# Altium schematic symbol library Schlib1.SchLib: 44 symbols (part 2 of 4)
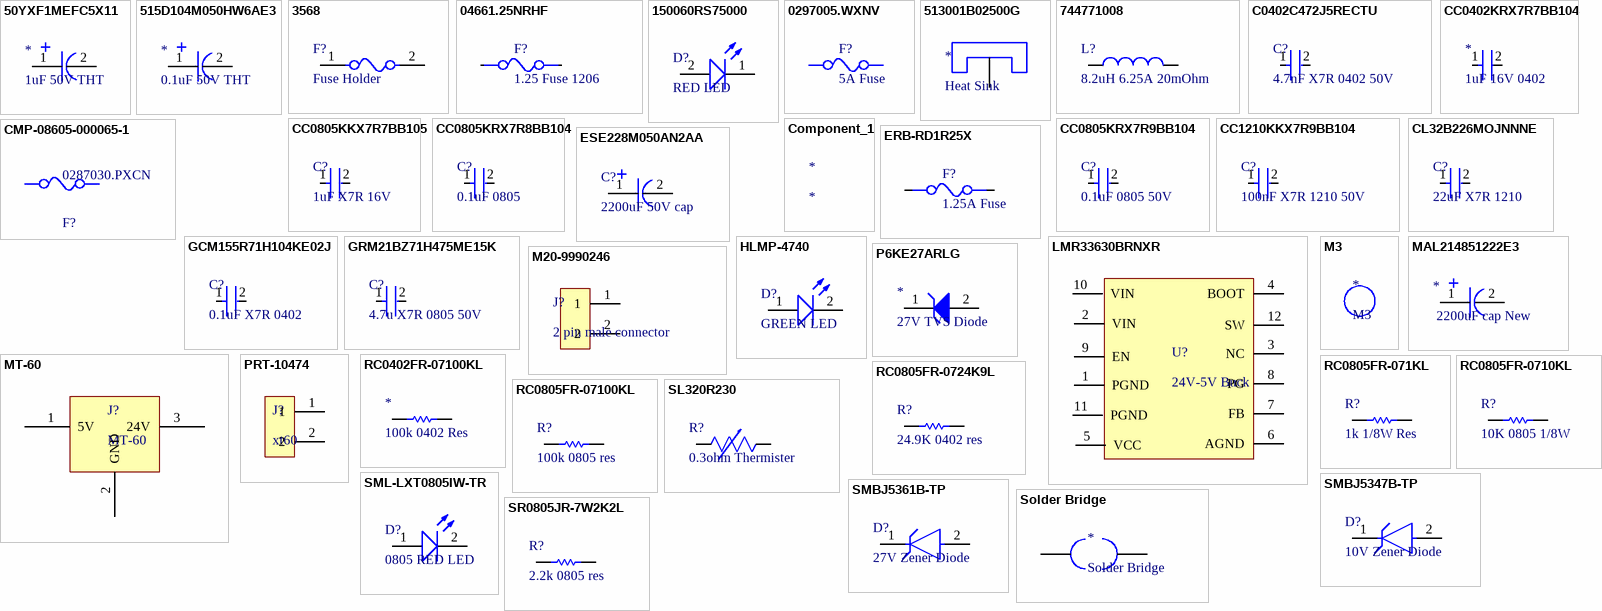
[diagram p2: symbols 50YXF1MEFC5X11 to SR0805JR-7W2K2L]

## CC0805KRX7R8BB104
designator C?, comment 0.1uF 0805
25V 100nF X7R ±10% 0805 Multilayer Ceramic Capacitors MLCC - SMD/SMT ROHS; Manufacturer: Yageo Group; Manufacturer Part Number: CC0805KRX7R8BB104; Manufacturer Package Identifier: CC0805-0.85; Insulation Resistance: 100GΩ; Supplier: Future Electronics; Supplier Part Number: CC0805KRX7R8BB104; RoHS: Compliant; Category: Ceramic Capacitors; Stock: 12000; Pricing: 4000=0.0057, 16000=0.0055, 60000=0.0053, 160000=0.0052, 400000=0.005 (USD); Value: 100nF; Case/Package: 0805; Case Code (Imperial): 0805; Case Code (Metric): 2012; China RoHS: Compliant; Composition: Ceramic; Depth: 1.25mm; Dielectric: X7R; Dielectric Material: Ceramic; Halogen Free: Halogen Free; Height: 850µm; Lead Free: Lead Free; Length: 2mm; Lifecycle Status: Production; Material: Ceramic; Max Operating Temperature: 125°C; Min Operating Temperature: -55°C; Mounting Technology: Surface Mount; Pins: 2; Number of Terminals: 2; Radiation Hardening: No; REACH SVHC: Yes; Schedule B: 8532240020, 8532240020|8532240020, 8532240020|8532240020|8532240020, 8532240020|8532240020|8532240020|8532240020; Termination: SMD/SMT; Thickness: 838.2µm; Tolerance: 10%; Voltage Rating: 25V; Voltage Rating (DC): 25V; Width: 1.25mm; ComponentLink1URL: https://datasheet.octopart.com:443/CC0805KRX7R8BB104-Yageo-datasheet-177165144.pdf?src-supplier=IHS; ComponentLink1Description: https://datasheet.octopart.com:443/CC0805KRX7R8BB104-Yageo-datasheet-177165144.pdf?src-supplier=IHS; ComponentLink2URL: https://datasheet.octopart.com:443/CC0805KRX7R8BB104-Yageo-datasheet-78855689.pdf?src-supplier=Upverter; ComponentLink2Description: https://datasheet.octopart.com:443/CC0805KRX7R8BB104-Yageo-datasheet-78855689.pdf?src-supplier=Upverter; ComponentLink3URL: https://datasheet.octopart.com/CC0805KRX7R8BB104-Yageo-datasheet-10883670.pdf; ComponentLink3Description: https://datasheet.octopart.com/CC0805KRX7R8BB104-Yageo-datasheet-10883670.pdf; ComponentLink4URL: https://datasheet.octopart.com:443/CC0805KRX7R8BB104-Yageo-datasheet-181969809.pdf?src-supplier=Newark; ComponentLink4Description: https://datasheet.octopart.com:443/CC0805KRX7R8BB104-Yageo-datasheet-181969809.pdf?src-supplier=Newark; ComponentLink5URL: https://datasheet.octopart.com:443/CC0805KRX7R8BB104-Yageo-datasheet-147453679.pdf?src-supplier=Newark; ComponentLink5Description: https://datasheet.octopart.com:443/CC0805KRX7R8BB104-Yageo-datasheet-147453679.pdf?src-supplier=Newark; ComponentLink6URL: https://datasheet.octopart.com:443/CC0805KRX7R8BB104-Yageo-datasheet-499490.pdf?src-supplier=Newark; ComponentLink6Description: https://datasheet.octopart.com:443/CC0805KRX7R8BB104-Yageo-datasheet-499490.pdf?src-supplier=Newark; ComponentLink7URL: https://datasheet.octopart.com:443/CC0805KRX7R8BB104-Yageo-datasheet-5301394.pdf?src-supplier=Newark; ComponentLink7Description: https://datasheet.octopart.com:443/CC0805KRX7R8BB104-Yageo-datasheet-5301394.pdf?src-supplier=Newark; ComponentLink8URL: https://datasheet.octopart.com:443/CC0805KRX7R8BB104-Yageo-datasheet-62336348.pdf?src-supplier=Newark; ComponentLink8Description: https://datasheet.octopart.com:443/CC0805KRX7R8BB104-Yageo-datasheet-62336348.pdf?src-supplier=Newark; ComponentLink9URL: https://datasheet.octopart.com:443/CC0805KRX7R8BB104-Yageo-datasheet-151948686.pdf?src-supplier=Farnell; ComponentLink9Description: https://datasheet.octopart.com:443/CC0805KRX7R8BB104-Yageo-datasheet-151948686.pdf?src-supplier=Farnell; ComponentLink10URL: https://datasheet.octopart.com:443/CC0805KRX7R8BB104-Yageo-datasheet-500777.pdf?src-supplier=Farnell; ComponentLink10Description: https://datasheet.octopart.com:443/CC0805KRX7R8BB104-Yageo-datasheet-500777.pdf?src-supplier=Farnell; ComponentLink11URL: https://datasheet.octopart.com:443/CC0805KRX7R8BB104-Yageo-datasheet-166511530.pdf?src-supplier=Future+Electronics; ComponentLink11Description: https://datasheet.octopart.com:443/CC0805KRX7R8BB104-Yageo-datasheet-166511530.pdf?src-supplier=Future+Electronics; ComponentLink12URL: https://datasheet.octopart.com:443/CC0805KRX7R8BB104-Yageo-datasheet-137700082.pdf?src-supplier=Future+Electronics; ComponentLink12Description: https://datasheet.octopart.com:443/CC0805KRX7R8BB104-Yageo-datasheet-137700082.pdf?src-supplier=Future+Electronics; ComponentLink13URL: https://datasheet.octopart.com:443/CC0805KRX7R8BB104-Yageo-datasheet-137700084.pdf?src-supplier=Future+Electronics; ComponentLink13Description: https://datasheet.octopart.com:443/CC0805KRX7R8BB104-Yageo-datasheet-137700084.pdf?src-supplier=Future+Electronics; ComponentLink14URL: https://datasheet.octopart.com:443/CC0805KRX7R8BB104-Yageo-datasheet-27626582.pdf?src-supplier=Future+Electronics; ComponentLink14Description: https://datasheet.octopart.com:443/CC0805KRX7R8BB104-Yageo-datasheet-27626582.pdf?src-supplier=Future+Electronics; ComponentLink15URL: https://datasheet.octopart.com:443/CC0805KRX7R8BB104-Yageo-datasheet-15895757.pdf?src-supplier=Future+Electronics; ComponentLink15Description: https://datasheet.octopart.com:443/CC0805KRX7R8BB104-Yageo-datasheet-15895757.pdf?src-supplier=Future+Electronics; ComponentLink16URL: https://datasheet.octopart.com:443/CC0805KRX7R8BB104-Yageo-datasheet-12526321.pdf?src-supplier=Future+Electronics; ComponentLink16Description: https://datasheet.octopart.com:443/CC0805KRX7R8BB104-Yageo-datasheet-12526321.pdf?src-supplier=Future+Electronics; ComponentLink17URL: https://datasheet.octopart.com:443/CC0805KRX7R8BB104-Yageo-datasheet-8324192.pdf?src-supplier=Future+Electronics; ComponentLink17Description: https://datasheet.octopart.com:443/CC0805KRX7R8BB104-Yageo-datasheet-8324192.pdf?src-supplier=Future+Electronics; ComponentLink18URL: https://datasheet.octopart.com:443/CC0805KRX7R8BB104-Yageo-Group-datasheet-165992755.pdf?src-supplier=ODG+(Origin+Data+Global); ComponentLink18Description: https://datasheet.octopart.com:443/CC0805KRX7R8BB104-Yageo-Group-datasheet-165992755.pdf?src-supplier=ODG+(Origin+Data+Global); ComponentLink19URL: https://datasheet.octopart.com:443/CC0805KRX7R8BB104-Yageo-datasheet-8701427.pdf?src-supplier=element14; ComponentLink19Description: https://datasheet.octopart.com:443/CC0805KRX7R8BB104-Yageo-datasheet-8701427.pdf?src-supplier=element14; ComponentLink20URL: https://datasheet.octopart.com:443/CC0805KRX7R8BB104-Yageo-datasheet-8555986.pdf?src-supplier=TME; ComponentLink20Description: https://datasheet.octopart.com:443/CC0805KRX7R8BB104-Yageo-datasheet-8555986.pdf?src-supplier=TME; ComponentLink21URL: https://datasheet.octopart.com:443/CC0805KRX7R8BB104-Yageo-datasheet-17600895.pdf?src-supplier=TME; ComponentLink21Description: https://datasheet.octopart.com:443/CC0805KRX7R8BB104-Yageo-datasheet-17600895.pdf?src-supplier=TME; ComponentLink22URL: https://datasheet.octopart.com:443/CC0805KRX7R8BB104-Yageo-datasheet-118396.pdf?src-supplier=DigiKey; ComponentLink22Description: https://datasheet.octopart.com:443/CC0805KRX7R8BB104-Yageo-datasheet-118396.pdf?src-supplier=DigiKey; ComponentLink23URL: http://sigma.octopart.com:80/conflict_mineral_statement/Yageo-company-3.pdf?src-supplier=Compliance+Statements; ComponentLink23Description: http://sigma.octopart.com:80/conflict_mineral_statement/Yageo-company-3.pdf?src-supplier=Compliance+Statements; ComponentLink24URL: http://sigma.octopart.com:80/rohs_statement/Yageo-company-2.pdf?src-supplier=Compliance+Statements; ComponentLink24Description: http://sigma.octopart.com:80/rohs_statement/Yageo-company-2.pdf?src-supplier=Compliance+Statements; LCSC Part No: C519981
footprint 0805 CAPACITOR
pins: 1, 2

## CC0805KRX7R9BB104
designator C?, comment 0.1uF 0805 50V
50V 100nF X7R ±10% 0805 Multilayer Ceramic Capacitors MLCC - SMD/SMT ROHS; Manufacturer: Yageo Group; Manufacturer Part Number: CC0805KRX7R9BB104; Manufacturer Package Identifier: CC0805-0.85; Insulation Resistance: 100GΩ; Supplier: Future Electronics; Supplier Part Number: CC0805KRX7R9BB104; RoHS: Compliant; Category: Ceramic Capacitors; Stock: 26464000; Pricing: 4000=0.0057, 16000=0.0055, 60000=0.0053, 160000=0.0052, 400000=0.005 (USD); Value: 100nF; Case/Package: 0805; Case Code (Imperial): 0805; Case Code (Metric): 2012; China RoHS: Compliant; Country of Origin: Mainland China, Taiwan; Depth: 1.25mm; Dielectric: X7R; Dielectric Material: Ceramic; Export Control Classification Number (ECCN) Code: EAR99; Halogen Free: Halogen Free; Height: 850µm; Harmonized Tariff Schedule (HTS) Code: 8532.24.00.20; Introduction Date: 2003-01-27; Lead Free: Lead Free; Length: 2mm; Lifecycle Status: Production; Material: Ceramic; Max Operating Temperature: 125°C; Min Operating Temperature: -55°C; Mounting Technology: Surface Mount; Pins: 2; Number of Terminals: 2; Packaging: Cut Tape; Radiation Hardening: No; REACH SVHC: Yes; Schedule B: 8532240020, 8532240020|8532240020|8532240020|8532240020|8532240020|8532240020|8532240020|8532240020|8532240020|8532240020|8532240020|8532240020|8532240020|8532240020|8532240020|8532240020, 8532240020|8532240020|8532240020|8532240020|8532240020|8532240020|8532240020|8532240020|8532240020|8532240020|8532240020|8532240020|8532240020|8532240020|8532240020|8532240020|8532240020, 8532240020|8532240020|8532240020|8532240020|8532240020|8532240020|8532240020|8532240020|8532240020|8532240020|8532240020|8532240020|8532240020|8532240020|8532240020|8532240020|8532240020|8532240020; Termination: SMD/SMT; Thickness: 838.2µm; Tolerance: 10%; Voltage: 50V; Voltage Rating: 50V; Voltage Rating (DC): 50V; Width: 1.25mm; ComponentLink1URL: https://datasheet.octopart.com:443/CC0805KRX7R9BB104-Yageo-datasheet-177165144.pdf?src-supplier=IHS; ComponentLink1Description: https://datasheet.octopart.com:443/CC0805KRX7R9BB104-Yageo-datasheet-177165144.pdf?src-supplier=IHS; ComponentLink2URL: https://datasheet.octopart.com:443/CC0805KRX7R9BB104-Yageo-datasheet-78855689.pdf?src-supplier=Upverter; ComponentLink2Description: https://datasheet.octopart.com:443/CC0805KRX7R9BB104-Yageo-datasheet-78855689.pdf?src-supplier=Upverter; ComponentLink3URL: https://datasheet.octopart.com:443/CC0805KRX7R9BB104-Yageo-datasheet-68298032.pdf?src-supplier=Upverter; ComponentLink3Description: https://datasheet.octopart.com:443/CC0805KRX7R9BB104-Yageo-datasheet-68298032.pdf?src-supplier=Upverter; ComponentLink4URL: https://datasheet.octopart.com:443/CC0805KRX7R9BB104-Yageo-Group-datasheet-189192896.pdf?src-supplier=Future+Electronics; ComponentLink4Description: https://datasheet.octopart.com:443/CC0805KRX7R9BB104-Yageo-Group-datasheet-189192896.pdf?src-supplier=Future+Electronics; ComponentLink5URL: https://datasheet.octopart.com:443/CC0805KRX7R9BB104-Yageo-datasheet-166511530.pdf?src-supplier=Future+Electronics; ComponentLink5Description: https://datasheet.octopart.com:443/CC0805KRX7R9BB104-Yageo-datasheet-166511530.pdf?src-supplier=Future+Electronics; ComponentLink6URL: https://datasheet.octopart.com:443/CC0805KRX7R9BB104-Yageo-datasheet-137700082.pdf?src-supplier=Future+Electronics; ComponentLink6Description: https://datasheet.octopart.com:443/CC0805KRX7R9BB104-Yageo-datasheet-137700082.pdf?src-supplier=Future+Electronics; ComponentLink7URL: https://datasheet.octopart.com:443/CC0805KRX7R9BB104-Yageo-datasheet-137700084.pdf?src-supplier=Future+Electronics; ComponentLink7Description: https://datasheet.octopart.com:443/CC0805KRX7R9BB104-Yageo-datasheet-137700084.pdf?src-supplier=Future+Electronics; ComponentLink8URL: https://datasheet.octopart.com:443/CC0805KRX7R9BB104-Yageo-datasheet-82288757.pdf?src-supplier=Future+Electronics; ComponentLink8Description: https://datasheet.octopart.com:443/CC0805KRX7R9BB104-Yageo-datasheet-82288757.pdf?src-supplier=Future+Electronics; ComponentLink9URL: https://datasheet.octopart.com:443/CC0805KRX7R9BB104-Yageo-datasheet-62139192.pdf?src-supplier=Future+Electronics; ComponentLink9Description: https://datasheet.octopart.com:443/CC0805KRX7R9BB104-Yageo-datasheet-62139192.pdf?src-supplier=Future+Electronics; ComponentLink10URL: https://datasheet.octopart.com:443/CC0805KRX7R9BB104-Yageo-datasheet-27626582.pdf?src-supplier=Future+Electronics; ComponentLink10Description: https://datasheet.octopart.com:443/CC0805KRX7R9BB104-Yageo-datasheet-27626582.pdf?src-supplier=Future+Electronics; ComponentLink11URL: https://datasheet.octopart.com:443/CC0805KRX7R9BB104-Yageo-datasheet-15895757.pdf?src-supplier=Future+Electronics; ComponentLink11Description: https://datasheet.octopart.com:443/CC0805KRX7R9BB104-Yageo-datasheet-15895757.pdf?src-supplier=Future+Electronics; ComponentLink12URL: https://datasheet.octopart.com:443/CC0805KRX7R9BB104-Yageo-datasheet-12526321.pdf?src-supplier=Future+Electronics; ComponentLink12Description: https://datasheet.octopart.com:443/CC0805KRX7R9BB104-Yageo-datasheet-12526321.pdf?src-supplier=Future+Electronics; ComponentLink13URL: https://datasheet.octopart.com:443/CC0805KRX7R9BB104-Yageo-datasheet-8324192.pdf?src-supplier=Future+Electronics; ComponentLink13Description: https://datasheet.octopart.com:443/CC0805KRX7R9BB104-Yageo-datasheet-8324192.pdf?src-supplier=Future+Electronics; ComponentLink14URL: https://datasheet.octopart.com/CC0805KRX7R9BB104-Yageo-datasheet-10883670.pdf; ComponentLink14Description: https://datasheet.octopart.com/CC0805KRX7R9BB104-Yageo-datasheet-10883670.pdf; ComponentLink15URL: https://datasheet.octopart.com:443/CC0805KRX7R9BB104-Yageo-datasheet-62336348.pdf?src-supplier=Newark; ComponentLink15Description: https://datasheet.octopart.com:443/CC0805KRX7R9BB104-Yageo-datasheet-62336348.pdf?src-supplier=Newark; ComponentLink16URL: https://datasheet.octopart.com:443/CC0805KRX7R9BB104-Yageo-datasheet-181969852.pdf?src-supplier=Newark; ComponentLink16Description: https://datasheet.octopart.com:443/CC0805KRX7R9BB104-Yageo-datasheet-181969852.pdf?src-supplier=Newark; ComponentLink17URL: https://datasheet.octopart.com:443/CC0805KRX7R9BB104-Yageo-datasheet-181969851.pdf?src-supplier=Newark; ComponentLink17Description: https://datasheet.octopart.com:443/CC0805KRX7R9BB104-Yageo-datasheet-181969851.pdf?src-supplier=Newark; ComponentLink18URL: https://datasheet.octopart.com:443/CC0805KRX7R9BB104-Phycomp-datasheet-499490.pdf?src-supplier=Newark; ComponentLink18Description: https://datasheet.octopart.com:443/CC0805KRX7R9BB104-Phycomp-datasheet-499490.pdf?src-supplier=Newark; ComponentLink19URL: https://datasheet.octopart.com:443/CC0805KRX7R9BB104-Yageo-datasheet-147453679.pdf?src-supplier=element14+APAC; ComponentLink19Description: https://datasheet.octopart.com:443/CC0805KRX7R9BB104-Yageo-datasheet-147453679.pdf?src-supplier=element14+APAC; ComponentLink20URL: https://datasheet.octopart.com:443/CC0805KRX7R9BB104-Yageo-datasheet-151948686.pdf?src-supplier=Farnell; ComponentLink20Description: https://datasheet.octopart.com:443/CC0805KRX7R9BB104-Yageo-datasheet-151948686.pdf?src-supplier=Farnell; ComponentLink21URL: https://datasheet.octopart.com:443/CC0805KRX7R9BB104-Yageo-Group-datasheet-188689702.pdf?src-supplier=Farnell; ComponentLink21Description: https://datasheet.octopart.com:443/CC0805KRX7R9BB104-Yageo-Group-datasheet-188689702.pdf?src-supplier=Farnell; ComponentLink22URL: https://datasheet.octopart.com:443/CC0805KRX7R9BB104-Phycomp-datasheet-500777.pdf?src-supplier=Farnell; ComponentLink22Description: https://datasheet.octopart.com:443/CC0805KRX7R9BB104-Phycomp-datasheet-500777.pdf?src-supplier=Farnell; ComponentLink23URL: https://datasheet.octopart.com:443/CC0805KRX7R9BB104-Yageo-Group-datasheet-165992755.pdf?src-supplier=ODG+(Origin+Data+Global); ComponentLink23Description: https://datasheet.octopart.com:443/CC0805KRX7R9BB104-Yageo-Group-datasheet-165992755.pdf?src-supplier=ODG+(Origin+Data+Global); ComponentLink24URL: https://datasheet.octopart.com:443/CC0805KRX7R9BB104-Yageo-datasheet-140260305.pdf?src-supplier=SOS+electronic; ComponentLink24Description: https://datasheet.octopart.com:443/CC0805KRX7R9BB104-Yageo-datasheet-140260305.pdf?src-supplier=SOS+electronic; ComponentLink25URL: https://datasheet.octopart.com:443/CC0805KRX7R9BB104-Yageo-datasheet-120101875.pdf?src-supplier=Megastar; ComponentLink25Description: https://datasheet.octopart.com:443/CC0805KRX7R9BB104-Yageo-datasheet-120101875.pdf?src-supplier=Megastar; ComponentLink26URL: https://datasheet.octopart.com:443/CC0805KRX7R9BB104-Yageo-datasheet-8701427.pdf?src-supplier=element14; ComponentLink26Description: https://datasheet.octopart.com:443/CC0805KRX7R9BB104-Yageo-datasheet-8701427.pdf?src-supplier=element14; ComponentLink27URL: https://datasheet.octopart.com:443/CC0805KRX7R9BB104-Yageo-datasheet-5301394.pdf?src-supplier=element14; ComponentLink27Description: https://datasheet.octopart.com:443/CC0805KRX7R9BB104-Yageo-datasheet-5301394.pdf?src-supplier=element14; ComponentLink28URL: https://datasheet.octopart.com:443/CC0805KRX7R9BB104-Yageo-datasheet-17600895.pdf?src-supplier=TME; ComponentLink28Description: https://datasheet.octopart.com:443/CC0805KRX7R9BB104-Yageo-datasheet-17600895.pdf?src-supplier=TME; ComponentLink29URL: https://datasheet.octopart.com:443/CC0805KRX7R9BB104-Yageo-datasheet-118396.pdf?src-supplier=DigiKey; ComponentLink29Description: https://datasheet.octopart.com:443/CC0805KRX7R9BB104-Yageo-datasheet-118396.pdf?src-supplier=DigiKey; ComponentLink30URL: http://sigma.octopart.com:80/conflict_mineral_statement/Yageo-company-3.pdf?src-supplier=Compliance+Statements; ComponentLink30Description: http://sigma.octopart.com:80/conflict_mineral_statement/Yageo-company-3.pdf?src-supplier=Compliance+Statements; ComponentLink31URL: http://sigma.octopart.com:80/rohs_statement/Yageo-company-2.pdf?src-supplier=Compliance+Statements; ComponentLink31Description: http://sigma.octopart.com:80/rohs_statement/Yageo-company-2.pdf?src-supplier=Compliance+Statements; LCSC Part No: C49678
footprint 0805 CAPACITOR
pins: 1, 2

## CC1210KKX7R9BB104
designator C?, comment 100nF X7R 1210 50V
50V 100nF X7R ±10% 1210 Multilayer Ceramic Capacitors MLCC - SMD/SMT ROHS; Manufacturer: Yageo Group; Manufacturer Part Number: CC1210KKX7R9BB104; Supplier: DigiKey; Supplier Part Number: 311-4522-1-ND; RoHS: Compliant; Category: Ceramic Capacitors; Stock: 13190; Pricing: 1=0.49, 10=0.296, 50=0.221, 100=0.1979, 500=0.15896, 1000=0.14693 (USD); Value: 100nF; Case/Package: 1210; Case Code (Imperial): 1210; Case Code (Metric): 3225; China RoHS: Compliant; Composition: Ceramic; Depth: 2.5mm; Dielectric: X7R; Dielectric Material: Ceramic; Halogen Free: Halogen Free; Height: 850µm; Lead Free: Lead Free; Length: 3.2mm; Lifecycle Status: Production; Max Operating Temperature: 125°C; Min Operating Temperature: -55°C; Mounting Technology: Surface Mount; Number of Terminals: 2; Packaging: Tape and Reel; Radiation Hardening: No; REACH SVHC: Yes; Schedule B: 8532240020, 8532240020|8532240020|8532240020|8532240020|8532240020; Termination: SMD/SMT; Thickness: 939.8µm; Tolerance: 10%; Voltage Rating: 50V; Voltage Rating (DC): 50V; Width: 2.5mm; ComponentLink1URL: https://datasheet.octopart.com:443/CC1210KKX7R9BB104-Yageo-datasheet-177165144.pdf?src-supplier=IHS; ComponentLink1Description: https://datasheet.octopart.com:443/CC1210KKX7R9BB104-Yageo-datasheet-177165144.pdf?src-supplier=IHS; ComponentLink2URL: https://datasheet.octopart.com:443/CC1210KKX7R9BB104-Yageo-Group-datasheet-189192896.pdf?src-supplier=Future+Electronics; ComponentLink2Description: https://datasheet.octopart.com:443/CC1210KKX7R9BB104-Yageo-Group-datasheet-189192896.pdf?src-supplier=Future+Electronics; ComponentLink3URL: https://datasheet.octopart.com:443/CC1210KKX7R9BB104-Yageo-datasheet-166511530.pdf?src-supplier=Future+Electronics; ComponentLink3Description: https://datasheet.octopart.com:443/CC1210KKX7R9BB104-Yageo-datasheet-166511530.pdf?src-supplier=Future+Electronics; ComponentLink4URL: https://datasheet.octopart.com:443/CC1210KKX7R9BB104-Yageo-datasheet-137700082.pdf?src-supplier=Future+Electronics; ComponentLink4Description: https://datasheet.octopart.com:443/CC1210KKX7R9BB104-Yageo-datasheet-137700082.pdf?src-supplier=Future+Electronics; ComponentLink5URL: https://datasheet.octopart.com:443/CC1210KKX7R9BB104-Yageo-datasheet-137700084.pdf?src-supplier=Future+Electronics; ComponentLink5Description: https://datasheet.octopart.com:443/CC1210KKX7R9BB104-Yageo-datasheet-137700084.pdf?src-supplier=Future+Electronics; ComponentLink6URL: https://datasheet.octopart.com:443/CC1210KKX7R9BB104-Yageo-datasheet-27626582.pdf?src-supplier=Future+Electronics; ComponentLink6Description: https://datasheet.octopart.com:443/CC1210KKX7R9BB104-Yageo-datasheet-27626582.pdf?src-supplier=Future+Electronics; ComponentLink7URL: https://datasheet.octopart.com:443/CC1210KKX7R9BB104-Yageo-datasheet-15895757.pdf?src-supplier=Future+Electronics; ComponentLink7Description: https://datasheet.octopart.com:443/CC1210KKX7R9BB104-Yageo-datasheet-15895757.pdf?src-supplier=Future+Electronics; ComponentLink8URL: https://datasheet.octopart.com:443/CC1210KKX7R9BB104-Yageo-datasheet-181971219.pdf?src-supplier=Newark; ComponentLink8Description: https://datasheet.octopart.com:443/CC1210KKX7R9BB104-Yageo-datasheet-181971219.pdf?src-supplier=Newark; ComponentLink9URL: https://datasheet.octopart.com/CC1210KKX7R9BB104-Yageo-datasheet-10883670.pdf; ComponentLink9Description: https://datasheet.octopart.com/CC1210KKX7R9BB104-Yageo-datasheet-10883670.pdf; ComponentLink10URL: https://datasheet.octopart.com/CC1210KKX7R9BB104-Yageo-datasheet-12526321.pdf; ComponentLink10Description: https://datasheet.octopart.com/CC1210KKX7R9BB104-Yageo-datasheet-12526321.pdf; ComponentLink11URL: https://datasheet.octopart.com:443/CC1210KKX7R9BB104-Yageo-Group-datasheet-165992755.pdf?src-supplier=ODG+(Origin+Data+Global); ComponentLink11Description: https://datasheet.octopart.com:443/CC1210KKX7R9BB104-Yageo-Group-datasheet-165992755.pdf?src-supplier=ODG+(Origin+Data+Global); ComponentLink12URL: http://sigma.octopart.com:80/rohs_statement/Surface-Mount-Ceramic-Multilayer-Capacitors%3B-General-Purpose-%26-High-Capacitance-Class-2%2C-X7R-Yageo-family-124.pdf?src-supplier=Compliance+Statements; ComponentLink12Description: http://sigma.octopart.com:80/rohs_statement/Surface-Mount-Ceramic-Multilayer-Capacitors%3B-General-Purpose-%26-High-Capacitance-Class-2%2C-X7R-Yageo-family-124.pdf?src-supplier=Compliance+Statements; ComponentLink13URL: http://sigma.octopart.com:80/reach_statement/Surface-Mount-Ceramic-Multilayer-Capacitors%3B-General-Purpose-%26-High-Capacitance-Class-2%2C-X7R-Yageo-family-125.pdf?src-supplier=Compliance+Statements; ComponentLink13Description: http://sigma.octopart.com:80/reach_statement/Surface-Mount-Ceramic-Multilayer-Capacitors%3B-General-Purpose-%26-High-Capacitance-Class-2%2C-X7R-Yageo-family-125.pdf?src-supplier=Compliance+Statements; ComponentLink14URL: http://sigma.octopart.com:80/conflict_mineral_statement/Yageo-company-3.pdf?src-supplier=Compliance+Statements; ComponentLink14Description: http://sigma.octopart.com:80/conflict_mineral_statement/Yageo-company-3.pdf?src-supplier=Compliance+Statements; ComponentLink15URL: http://sigma.octopart.com:80/rohs_statement/Yageo-company-2.pdf?src-supplier=Compliance+Statements; ComponentLink15Description: http://sigma.octopart.com:80/rohs_statement/Yageo-company-2.pdf?src-supplier=Compliance+Statements; LCSC Part No: C412504
footprint 1210 capacitor
pins: 1, 2

## CL32B226MOJNNNE
designator C?, comment 22uF X7R 1210
16V 22uF X7R 卤20% 1210 Multilayer Ceramic Capacitors MLCC - SMD/SMT ROHS; Manufacturer: Samsung Electro-Mechanics; Manufacturer Part Number: CL32B226MOJNNNE; Value: 22µF; Tolerance: 20%; Supplier: Future Electronics; Supplier Part Number: CL32B226MOJNNNE; RoHS: Compliant; Category: Ceramic Capacitors; Stock: 33000; Pricing: 1000=0.0959, 3000=0.0934, 5000=0.0923, 20000=0.0892, 30000=0.0873 (USD); Case/Package: 1210; Case Code (Imperial): 1210; Case Code (Metric): 3225; China RoHS: Compliant; Country of Origin: Mainland China, Philippines, South Korea; Depth: 2.5mm; Dielectric: X7R; Dielectric Material: Ceramic; Export Control Classification Number (ECCN) Code: EAR99; Height: 2.8mm; Harmonized Tariff Schedule (HTS) Code: 8532.24.00.20; Introduction Date: 2010-04-14; Length: 3.2mm; Lifecycle Status: Production; Material: Ceramic; Max Operating Temperature: 125°C; Min Operating Temperature: -55°C; Mounting Technology: Surface Mount; Number of Terminals: 2; Packaging: Tape & Reel; Radiation Hardening: No; REACH SVHC: Yes; Schedule B: 8532240020, 8532240020|8532240020, 8532240020|8532240020|8532240020, 8532240020|8532240020|8532240020|8532240020; Thickness: 2.6924mm; Voltage Rating: 16V; Voltage Rating (DC): 16V; Width: 2.4892mm; ComponentLink1URL: https://datasheet.octopart.com:443/CL32B226MOJNNNE-Samsung-Electro-Mechanics-datasheet-136482671.pdf?src-supplier=IHS; ComponentLink1Description: https://datasheet.octopart.com:443/CL32B226MOJNNNE-Samsung-Electro-Mechanics-datasheet-136482671.pdf?src-supplier=IHS; ComponentLink2URL: https://datasheet.octopart.com:443/CL32B226MOJNNNE-Samsung-Electro-Mechanics-datasheet-149049213.pdf?src-supplier=Future+Electronics; ComponentLink2Description: https://datasheet.octopart.com:443/CL32B226MOJNNNE-Samsung-Electro-Mechanics-datasheet-149049213.pdf?src-supplier=Future+Electronics; ComponentLink3URL: https://datasheet.octopart.com:443/CL32B226MOJNNNE-Samsung-Electro-Mechanics-datasheet-116051344.pdf?src-supplier=Future+Electronics; ComponentLink3Description: https://datasheet.octopart.com:443/CL32B226MOJNNNE-Samsung-Electro-Mechanics-datasheet-116051344.pdf?src-supplier=Future+Electronics; ComponentLink4URL: https://datasheet.octopart.com:443/CL32B226MOJNNNE-Samsung-Electro-Mechanics-datasheet-81462651.pdf?src-supplier=Future+Electronics; ComponentLink4Description: https://datasheet.octopart.com:443/CL32B226MOJNNNE-Samsung-Electro-Mechanics-datasheet-81462651.pdf?src-supplier=Future+Electronics; ComponentLink5URL: https://datasheet.octopart.com:443/CL32B226MOJNNNE-Samsung-datasheet-26673912.pdf?src-supplier=Future+Electronics; ComponentLink5Description: https://datasheet.octopart.com:443/CL32B226MOJNNNE-Samsung-datasheet-26673912.pdf?src-supplier=Future+Electronics; ComponentLink6URL: https://datasheet.octopart.com:443/CL32B226MOJNNNE-Samsung-datasheet-37081328.pdf?src-supplier=Future+Electronics; ComponentLink6Description: https://datasheet.octopart.com:443/CL32B226MOJNNNE-Samsung-datasheet-37081328.pdf?src-supplier=Future+Electronics; ComponentLink7URL: https://datasheet.octopart.com/CL32B226MOJNNNE-Samsung-Electro-Mechanics-datasheet-97040617.pdf; ComponentLink7Description: https://datasheet.octopart.com/CL32B226MOJNNNE-Samsung-Electro-Mechanics-datasheet-97040617.pdf; ComponentLink8URL: https://datasheet.octopart.com/CL32B226MOJNNNE-Samsung-Electro-Mechanics-datasheet-8324245.pdf; ComponentLink8Description: https://datasheet.octopart.com/CL32B226MOJNNNE-Samsung-Electro-Mechanics-datasheet-8324245.pdf; ComponentLink9URL: https://datasheet.octopart.com/General-Multilayer-Ceramic-Capacitors-Samsung-datasheet-family-111.pdf; ComponentLink9Description: https://datasheet.octopart.com/General-Multilayer-Ceramic-Capacitors-Samsung-datasheet-family-111.pdf; ComponentLink10URL: http://sigma.octopart.com:80/rohs_certificate/General-Multilayer-Ceramic-Capacitors-Samsung-family-110.pdf?src-supplier=Compliance+Statements; ComponentLink10Description: http://sigma.octopart.com:80/rohs_certificate/General-Multilayer-Ceramic-Capacitors-Samsung-family-110.pdf?src-supplier=Compliance+Statements; ComponentLink11URL: http://sigma.octopart.com:80/rohs_statement/General-Multilayer-Ceramic-Capacitors-Samsung-family-132.pdf?src-supplier=Compliance+Statements; ComponentLink11Description: http://sigma.octopart.com:80/rohs_statement/General-Multilayer-Ceramic-Capacitors-Samsung-family-132.pdf?src-supplier=Compliance+Statements; ComponentLink12URL: http://sigma.octopart.com:80/reach_statement/General-Multilayer-Ceramic-Capacitors-Samsung-family-133.pdf?src-supplier=Compliance+Statements; ComponentLink12Description: http://sigma.octopart.com:80/reach_statement/General-Multilayer-Ceramic-Capacitors-Samsung-family-133.pdf?src-supplier=Compliance+Statements; LCSC Part No: C2980161
footprint 1210 capacitor
pins: 1, 2

## CMP-08605-000065-1
designator F?, comment 0287030.PXCN
FUSE AUTOMOTIVE 30A 32VDC BLADE; Manufacturer: Littelfuse Inc; Max Fuse Dc Voltage: 32V; Fuse Voltage Drop: 84mV; Fuse I2T: 1510A2Sec; Fuse Blow Speed: Medium; Resistance: 1.97mΩ; Value: 1.97mΩ; Fuse Interrupt Dc Current: 1000A; Fuse Current: 30A; Device Class L2: Fuses; Octopart: https://octopart.com/0287030.pxcn-littelfuse-19644293; Device Class L3: unset; Voltage Rating: 32V; RoHS: TRUE; ComponentLink2Description: Datasheet; Device Class L1: Circuit Protection; Ambient Temperature Range High: +105°C; ComponentLink2URL: https://www.littelfuse.com/~/media/automotive/datasheets/fuses/passenger-car-and-commercial-vehicle/blade-fuses/littelfuse_atof_datasheet.pdf; Automotive: Yes; Lead Free: Yes; Ambient Temperature Range Low: -40°C; Manufacturer Part Number: 0287030.PXCN; Mouser Description: Automotive Fuses ATOF 32V 30A Low-Current Nylon; Package: 0287; Category: Fuse; Digikey Description: FUSE AUTOMOTIVE 30A 32VDC BLADE; LCSC Part No: C142686
footprint FP-0287-MFG

## Component_1
designator *

## ERB-RD1R25X
designator F?, comment 1.25A Fuse
Fuse Chip Fast Acting 1.25A 32V SMD Solder Pad 0402 1 X 0.5 X 0.39mm T/R UL/cUL; Manufacturer: Panasonic; Manufacturer Part Number: ERB-RD1R25X; Manufacturer Lifecycle Status: ACTIVE; Part Series: Micro Chip Fuse; Approvals: UL; Body Material: Alumina; Value: 82mΩ; Supplier: Avnet; Supplier Part Number: ERB-RD1R25X; RoHS: Compliant; Category: Fuses; Pricing: 10000=0.10829, 20000=0.10601, 40000=0.10384, 80000=0.1004, 160000=0.09844 (USD); Case/Package: 0402; Case Code (Imperial): 0402; Case Code (Metric): 1005; Current: 1.25A; Current Rating: 1.25A; Depth: 500µm; Fuse Current: 1.25A; Height: 390µm; Length: 1mm; Lifecycle Status: Production; Max Operating Temperature: 125°C; Max Voltage Rating (DC): 32V; Min Operating Temperature: -40°C; Mounting Technology: Surface Mount; Pins: 2; Packaging: Cut Tape; REACH SVHC: Yes; Voltage Rating: 32V; Voltage Rating (DC): 32V; Width: 500µm; ComponentLink1URL: https://datasheet.octopart.com:443/ERBRD1R25X-Panasonic-datasheet-180975427.pdf?src-supplier=IHS; ComponentLink1Description: https://datasheet.octopart.com:443/ERBRD1R25X-Panasonic-datasheet-180975427.pdf?src-supplier=IHS; ComponentLink2URL: https://datasheet.octopart.com:443/ERB-RD1R25X-Panasonic-datasheet-78834729.pdf?src-supplier=Panasonic; ComponentLink2Description: https://datasheet.octopart.com:443/ERB-RD1R25X-Panasonic-datasheet-78834729.pdf?src-supplier=Panasonic; ComponentLink3URL: https://datasheet.octopart.com:443/ERB-RD1R25X-Panasonic-datasheet-136807619.pdf?src-supplier=Farnell; ComponentLink3Description: https://datasheet.octopart.com:443/ERB-RD1R25X-Panasonic-datasheet-136807619.pdf?src-supplier=Farnell; ComponentLink4URL: https://datasheet.octopart.com:443/ERB-RD1R25X-Panasonic-datasheet-10129016.pdf?src-supplier=RS+(Formerly+Allied+Electronics); ComponentLink4Description: https://datasheet.octopart.com:443/ERB-RD1R25X-Panasonic-datasheet-10129016.pdf?src-supplier=RS+(Formerly+Allied+Electronics); ComponentLink5URL: https://datasheet.octopart.com:443/ERB-RD1R25X-Panasonic-datasheet-11844109.pdf?src-supplier=Electro+Sonic; ComponentLink5Description: https://datasheet.octopart.com:443/ERB-RD1R25X-Panasonic-datasheet-11844109.pdf?src-supplier=Electro+Sonic; LCSC Part No: C1984849
footprint 1.25A Fuse
pins: 1, 2

## ESE228M050AN2AA
designator C?, comment 2200uF 50V cap
Radial Can ALUMINUM ELECTROLYTIC CAPACITOR 148RUS 50V 2200muF ±20% 0.630Dia 16.00mm; Manufacturer: Yageo Group; Manufacturer Part Number: ESE228M050AN2AA; Value: 2.2mF; Leakage Current: 1.103mA; Ripple Current: 1.53A; Impedance: 39mΩ; Lead Diameter: 800µm; Life (Hours): 3000hours; Polarity: Polar; Supplier: DigiKey; Supplier Part Number: 399-ESE228M050AN2AA-ND; RoHS: Compliant; Category: Aluminum Electrolytic Capacitors; Stock: 1668; Pricing: 1=2.22, 10=1.461, 50=1.144, 100=1.0439, 500=0.8717, 1000=0.8175, 2500=0.75967, 5000=0.72446 (USD); Case/Package: Aluminum; Export Control Classification Number (ECCN) Code: EAR99; Lead Pitch: 7.5mm; Length: 36mm; Max Operating Temperature: 105°C; Min Operating Temperature: -40°C; Number of Terminals: 2; Packaging: Bulk; Schedule B: 8532220020, 8532220020|8532220020|8532220020|8532220020|8532220020; Termination: Radial; Tolerance: 20%; Voltage Rating: 50V; Voltage Rating (DC): 50V; ComponentLink1URL: https://datasheet.octopart.com:443/ESE228M050AN2AA-KEMET-datasheet-182055943.pdf?src-supplier=IHS; ComponentLink1Description: https://datasheet.octopart.com:443/ESE228M050AN2AA-KEMET-datasheet-182055943.pdf?src-supplier=IHS; LCSC Part No: C1601121; China RoHS: Compliant; Diameter: 16mm; Height: 31mm; Height - Seated (Max): 33.5026mm; Lifecycle Status: Production; Mounting Technology: Through Hole; Radiation Hardening: No; REACH SVHC: Yes; Terminal Pitch: 7.5mm; ComponentLink2URL: https://datasheet.octopart.com:443/MAL214851222E3-Vishay-datasheet-159617121.pdf?src-supplier=IHS; ComponentLink2Description: https://datasheet.octopart.com:443/MAL214851222E3-Vishay-datasheet-159617121.pdf?src-supplier=IHS; ComponentLink3URL: https://datasheet.octopart.com:443/MAL214851222E3-Vishay-datasheet-62320647.pdf?src-supplier=Farnell; ComponentLink3Description: https://datasheet.octopart.com:443/MAL214851222E3-Vishay-datasheet-62320647.pdf?src-supplier=Farnell; ComponentLink4URL: https://datasheet.octopart.com:443/MAL214851222E3-Vishay-datasheet-37143530.pdf?src-supplier=Newark; ComponentLink4Description: https://datasheet.octopart.com:443/MAL214851222E3-Vishay-datasheet-37143530.pdf?src-supplier=Newark; ComponentLink5URL: http://sigma.octopart.com:80/rohs_statement/Vishay-company-15.pdf?src-supplier=Compliance+Statements; ComponentLink5Description: http://sigma.octopart.com:80/rohs_statement/Vishay-company-15.pdf?src-supplier=Compliance+Statements
footprint Capacitor through hole
pins: 1, 2

## GCM155R71H104KE02J
designator C?, comment 0.1uF X7R 0402
50V 100nF X7R ±10% 0402 Multilayer Ceramic Capacitors MLCC - SMD/SMT ROHS; Manufacturer: Murata; Manufacturer Part Number: GCM155R71H104KE02J; Manufacturer Lifecycle Status: IN PRODUCTION; Supplier: Arrow Electronics; Supplier Part Number: GCM155R71H104KE02J; RoHS: Compliant; Category: Ceramic Capacitors; Stock: 2050000; Pricing: 50000=0.008, 100000=0.0078 (USD); Value: 100nF; Case/Package: 0402; Case Code (Imperial): 0402; Case Code (Metric): 1005; Country of Origin: Philippines; Dielectric: X7R; Dielectric Material: Ceramic; Export Control Classification Number (ECCN) Code: EAR99; Height: 500µm; Harmonized Tariff Schedule (HTS) Code: 8532.24.00.20; Introduction Date: 2013-11-20; Length: 1mm; Lifecycle Status: Production; Material: Ceramic; Max Operating Temperature: 125°C; Min Operating Temperature: -55°C; Mounting Technology: Surface Mount; Number of Terminals: 2; Packaging: Tape & Reel (TR); Ratings: AEC-Q200; REACH SVHC: Yes; Schedule B: 8532240020, 8532240020|8532240020, 8532240020|8532240020|8532240020, 8532240020|8532240020|8532240020|8532240020; Termination: SMD/SMT; Tolerance: 10%; Voltage Rating: 50V; Voltage Rating (DC): 50V; Weight: 6.010099mg; Width: 500µm; ComponentLink1URL: https://datasheet.octopart.com:443/GCM155R71H104KE02J-Murata-datasheet-155345015.pdf?src-supplier=Newark; ComponentLink1Description: https://datasheet.octopart.com:443/GCM155R71H104KE02J-Murata-datasheet-155345015.pdf?src-supplier=Newark; ComponentLink2URL: https://datasheet.octopart.com:443/GCM155R71H104KE02J-Murata-datasheet-178519985.pdf?src-supplier=Arrow.cn; ComponentLink2Description: https://datasheet.octopart.com:443/GCM155R71H104KE02J-Murata-datasheet-178519985.pdf?src-supplier=Arrow.cn; ComponentLink3URL: https://datasheet.octopart.com:443/GCM155R71H104KE02J-Murata-datasheet-141266224.pdf?src-supplier=Ciiva; ComponentLink3Description: https://datasheet.octopart.com:443/GCM155R71H104KE02J-Murata-datasheet-141266224.pdf?src-supplier=Ciiva; ComponentLink4URL: https://datasheet.octopart.com:443/GCM155R71H104KE02J-Murata-datasheet-140656751.pdf?src-supplier=Ciiva; ComponentLink4Description: https://datasheet.octopart.com:443/GCM155R71H104KE02J-Murata-datasheet-140656751.pdf?src-supplier=Ciiva; ComponentLink5URL: https://datasheet.octopart.com:443/GCM155R71H104KE02J-Murata-datasheet-138716456.pdf?src-supplier=Ciiva; ComponentLink5Description: https://datasheet.octopart.com:443/GCM155R71H104KE02J-Murata-datasheet-138716456.pdf?src-supplier=Ciiva; ComponentLink6URL: https://datasheet.octopart.com:443/GCM155R71H104KE02J-Murata-datasheet-77992203.pdf?src-supplier=Future+Electronics; ComponentLink6Description: https://datasheet.octopart.com:443/GCM155R71H104KE02J-Murata-datasheet-77992203.pdf?src-supplier=Future+Electronics; ComponentLink7URL: https://datasheet.octopart.com:443/GCM155R71H104KE02J-Murata-datasheet-12511495.pdf?src-supplier=TME; ComponentLink7Description: https://datasheet.octopart.com:443/GCM155R71H104KE02J-Murata-datasheet-12511495.pdf?src-supplier=TME; ComponentLink8URL: http://sigma.octopart.com:80/reach_statement/Murata-company-16.pdf?src-supplier=Compliance+Statements; ComponentLink8Description: http://sigma.octopart.com:80/reach_statement/Murata-company-16.pdf?src-supplier=Compliance+Statements; LCSC Part No: C2649549
footprint 0402 capacitor
pins: 1, 2

## GRM21BZ71H475ME15K
designator C?, comment 4.7u X7R 0805 50V
Ceramic Capacitor, Multilayer, Ceramic, 50V, 20% +Tol, 20% -Tol, X7R, 15% TC, 4.7uF, Surface Mount, 2012M/0805; Manufacturer: Murata; Manufacturer Part Number: GRM21BZ71H475ME15K; Manufacturer Lifecycle Status: IN PRODUCTION; Value: 4.7µF; Supplier: Future Electronics; Supplier Part Number: GRM21BZ71H475ME15K; RoHS: Compliant; Category: Ceramic Capacitors; Stock: 20000; Pricing: 10000=0.048, 20000=0.0472, 30000=0.0467, 40000=0.0462 (USD); Case/Package: 0805; Dielectric Material: Ceramic; Export Control Classification Number (ECCN) Code: EAR99; Height: 1.25mm; Harmonized Tariff Schedule (HTS) Code: 8532.24.00.20; Introduction Date: 2017-02-22; Length: 2mm; Lifecycle Status: Production; Material: Ceramic; Max Operating Temperature: 125°C; Min Operating Temperature: -55°C; Mounting Technology: Surface Mount; Number of Terminals: 2; REACH SVHC: Yes; Thickness: 1.25mm; Tolerance: 20%; Voltage Rating: 50V; Voltage Rating (DC): 50V; Width: 1.25mm; ComponentLink1URL: https://datasheet.octopart.com:443/GRM21BZ71H475ME15K-Murata-datasheet-141278880.pdf?src-supplier=Geoflip; ComponentLink1Description: https://datasheet.octopart.com:443/GRM21BZ71H475ME15K-Murata-datasheet-141278880.pdf?src-supplier=Geoflip; ComponentLink2URL: https://datasheet.octopart.com:443/GRM21BZ71H475ME15K-Murata-datasheet-165579666.pdf?src-supplier=TME; ComponentLink2Description: https://datasheet.octopart.com:443/GRM21BZ71H475ME15K-Murata-datasheet-165579666.pdf?src-supplier=TME; ComponentLink3URL: https://datasheet.octopart.com:443/GRM21BZ71H475ME15K-Murata-datasheet-140707842.pdf?src-supplier=Ciiva; ComponentLink3Description: https://datasheet.octopart.com:443/GRM21BZ71H475ME15K-Murata-datasheet-140707842.pdf?src-supplier=Ciiva; ComponentLink4URL: https://datasheet.octopart.com:443/GRM21BZ71H475ME15K-Murata-datasheet-138745138.pdf?src-supplier=Ciiva; ComponentLink4Description: https://datasheet.octopart.com:443/GRM21BZ71H475ME15K-Murata-datasheet-138745138.pdf?src-supplier=Ciiva; ComponentLink5URL: http://sigma.octopart.com:80/reach_statement/Murata-company-16.pdf?src-supplier=Compliance+Statements; ComponentLink5Description: http://sigma.octopart.com:80/reach_statement/Murata-company-16.pdf?src-supplier=Compliance+Statements; LCSC Part No: C3862703
footprint 0805 CAPACITOR
pins: 1, 2

## HLMP-4740
designator D?, comment GREEN LED
Round with Domed Top HLMP-4740 SINGLE COLOR LED Green LED Indication Discrete 6.1mm 5V 2mA 2.3mcd; Manufacturer: Broadcom; Dominant Wavelength: 569nm; Forward Current: 7mA; Forward Voltage: 2.2V; Lead Length: 25mm; Lens Size: 5mm; Lens Style: Diffused; Luminous Intensity: 1mcd; Max Power Dissipation: 15.4mW; Number of Circuits: 1; Peak Wavelength: 565nm; Viewing Angle: 50°; Supplier: Avnet; Supplier Part Number: HLMP-4740; Manufacturer Part Number: HLMP-4740; RoHS: Compliant; Category: LEDs; Stock: 3902; Pricing: 2000=0.16434, 4000=0.16351, 8000=0.16268, 16000=0.16185, 32000=0.16102 (USD); Case/Package: Radial; China RoHS: Compliant; Color: Green; Contact Plating: Tin; Depth: 6.1mm; Diameter: 5.08mm; Export Control Classification Number (ECCN) Code: EAR99; Height: 8.81mm; Harmonized Tariff Schedule (HTS) Code: 8541.41.00.00; Illumination Color: Green; Introduction Date: 1992-01-01; Lead Free: Lead Free; Length: 6.1mm; Lens Color: Green; Lens Transparency: Diffused; Lifecycle Status: Production; Max Operating Temperature: 100°C; Min Operating Temperature: -20°C; Mounting Technology: PCB, Through Hole; Number of Elements: 1; Number of LEDs: 1; Pins: 2; Number of Terminals: 1; Packaging: Bulk; Power Dissipation: 15.4mW; Radiation Hardening: No; REACH SVHC: Yes; Reverse Voltage: 5V; Shape: Round; Terminal Pitch: 2.54mm; Test Current: 2mA; Wavelength: 569nm; ComponentLink1URL: https://datasheet.octopart.com:443/HLMP-4740-Broadcom-datasheet-179994660.pdf?src-supplier=IHS; ComponentLink1Description: https://datasheet.octopart.com:443/HLMP-4740-Broadcom-datasheet-179994660.pdf?src-supplier=IHS; ComponentLink2URL: https://datasheet.octopart.com:443/HLMP-4740-Broadcom-datasheet-10307821.pdf?src-supplier=Future+Electronics; ComponentLink2Description: https://datasheet.octopart.com:443/HLMP-4740-Broadcom-datasheet-10307821.pdf?src-supplier=Future+Electronics; ComponentLink3URL: https://datasheet.octopart.com:443/HLMP-4740-Avago-datasheet-8325423.pdf?src-supplier=Future+Electronics; ComponentLink3Description: https://datasheet.octopart.com:443/HLMP-4740-Avago-datasheet-8325423.pdf?src-supplier=Future+Electronics; ComponentLink4URL: https://datasheet.octopart.com:443/HLMP-4740-Broadcom-datasheet-41234193.pdf?src-supplier=Avago; ComponentLink4Description: https://datasheet.octopart.com:443/HLMP-4740-Broadcom-datasheet-41234193.pdf?src-supplier=Avago; ComponentLink5URL: https://datasheet.octopart.com:443/HLMP-4740-Broadcom-datasheet-26590252.pdf?src-supplier=Newark; ComponentLink5Description: https://datasheet.octopart.com:443/HLMP-4740-Broadcom-datasheet-26590252.pdf?src-supplier=Newark; ComponentLink6URL: https://datasheet.octopart.com:443/HLMP-4740-Avago-datasheet-3474.pdf?src-supplier=Newark; ComponentLink6Description: https://datasheet.octopart.com:443/HLMP-4740-Avago-datasheet-3474.pdf?src-supplier=Newark; ComponentLink7URL: https://datasheet.octopart.com:443/HLMP-4740-Avago-datasheet-15068216.pdf?src-supplier=element14+APAC; ComponentLink7Description: https://datasheet.octopart.com:443/HLMP-4740-Avago-datasheet-15068216.pdf?src-supplier=element14+APAC; ComponentLink8URL: https://datasheet.octopart.com:443/HLMP-4740-Avago-datasheet-9617573.pdf?src-supplier=RS+(Formerly+Allied+Electronics); ComponentLink8Description: https://datasheet.octopart.com:443/HLMP-4740-Avago-datasheet-9617573.pdf?src-supplier=RS+(Formerly+Allied+Electronics); ComponentLink9URL: https://datasheet.octopart.com:443/HLMP-4740-Avago-datasheet-87738.pdf?src-supplier=RS+(Formerly+Allied+Electronics); ComponentLink9Description: https://datasheet.octopart.com:443/HLMP-4740-Avago-datasheet-87738.pdf?src-supplier=RS+(Formerly+Allied+Electronics); LCSC Part No: C7466713
footprint LED Through Hole (THD, 2-Leads, Dia 5.845mm, Pitch 2.54mm)
pins: 1 A, 2 K

## LMR33630BRNXR
designator U?, comment 24V-5V Buck
IC REG BUCK ADJUSTABLE 3A 12VQFN / Buck Switching Regulator IC Positive Adjustable 1V 1 Output 3A 12-VFQFN; Manufacturer: Texas Instruments; Manufacturer Part Number: LMR33630BRNXR; Manufacturer Lifecycle Status: ACTIVE; Number of Channels: 1; Supplier: Arrow Electronics; Supplier Part Number: LMR33630BRNXR; RoHS: Compliant; Category: Voltage Regulators - Switching; Stock: 2742; Pricing: 1=1.533, 10=1.509, 25=1.486, 100=1.462, 250=1.438, 500=1.415, 1000=1.391 (USD); Height: 1mm; Length: 2mm; Lifecycle Status: Production; Max Operating Temperature: 125°C; Min Operating Temperature: -40°C; Pins: 12; Schedule B: 8542390000, 8542390000|8542390000|8542390000|8542390000|8542390000; Thickness: 900µm; Topology: Buck; Width: 3mm; ComponentLink1URL: https://sigma.octopart.com:443/108227172/technical_drawing/Texas-Instruments-LMR33630BRNXR.pdf?src-supplier=Texas+Instruments; ComponentLink1Description: https://sigma.octopart.com:443/108227172/technical_drawing/Texas-Instruments-LMR33630BRNXR.pdf?src-supplier=Texas+Instruments; ComponentLink2URL: https://octopart.com:443/opatz8j6/c1?t=EVqXTc9lPdvh4KM0OMOd6jF6nvDy5iiMa6Ug704xYOEM50ApL5efiiKsondM5tWZXuMkVgDVeHSOWY4K2L4yJ1BDbP8IXnDBSM36LZKtaJIrTmne1BvFg3XbALw5nGtLfaIOBIEiZ444J4F9avIzeyXpDaATm-j-4v7b17r_NykRi2lhYhl8bAqjuH2g8-6CjsgeyyGYXZTl1usI-_kVX2lsvdFDAZQxbVeCyAoTQbYcqwNKC2Z_SfJdxjT-iffmEDohhR-f8cczwCUh22kJFK9zzMNieV0knEERwChZnJsPjR28tudu-k_MGMOPDZL1QnnNd5Grz0jM_2De5P-MOKwDonG2s3yX_9ySz95wkzseGQYe3rwTrSESYgD7i1ybtPA3Sdk&src-supplier=Texas+Instruments; ComponentLink2Description: https://octopart.com:443/opatz8j6/c1?t=EVqXTc9lPdvh4KM0OMOd6jF6nvDy5iiMa6Ug704xYOEM50ApL5efiiKsondM5tWZXuMkVgDVeHSOWY4K2L4yJ1BDbP8IXnDBSM36LZKtaJIrTmne1BvFg3XbALw5nGtLfaIOBIEiZ444J4F9avIzeyXpDaATm-j-4v7b17r_NykRi2lhYhl8bAqjuH2g8-6CjsgeyyGYXZTl1usI-_kVX2lsvdFDAZQxbVeCyAoTQbYcqwNKC2Z_SfJdxjT-iffmEDohhR-f8cczwCUh22kJFK9zzMNieV0knEERwChZnJsPjR28tudu-k_MGMOPDZL1QnnNd5Grz0jM_2De5P-MOKwDonG2s3yX_9ySz95wkzseGQYe3rwTrSESYgD7i1ybtPA3Sdk&src-supplier=Texas+Instruments; ComponentLink3URL: https://sigma.octopart.com:443/103854369/technical_drawing/Texas-Instruments-LMR33630BRNXR.pdf?src-supplier=Texas+Instruments; ComponentLink3Description: https://sigma.octopart.com:443/103854369/technical_drawing/Texas-Instruments-LMR33630BRNXR.pdf?src-supplier=Texas+Instruments; ComponentLink4URL: http://sigma.octopart.com:80/reach_statement/Texas-Instruments-company-64.pdf?src-supplier=Compliance+Statements; ComponentLink4Description: http://sigma.octopart.com:80/reach_statement/Texas-Instruments-company-64.pdf?src-supplier=Compliance+Statements; ComponentLink5URL: http://sigma.octopart.com:80/conflict_mineral_statement/Texas-Instruments-company-63.pdf?src-supplier=Compliance+Statements; ComponentLink5Description: http://sigma.octopart.com:80/conflict_mineral_statement/Texas-Instruments-company-63.pdf?src-supplier=Compliance+Statements; LCSC Part No: C2071384
footprint buck converter
pins: 1 PGND, 2 VIN, 3 NC, 4 BOOT, 5 VCC, 6 AGND, 7 FB, 8 PG, 9 EN, 10 VIN, 11 PGND, 12 SW

## M3
designator *  (mechanical)
footprint M3

## M20-9990246
designator J?, comment 2 pin male connector
CONN HEADER VERT 2POS 2.54MM / Connector Header Through Hole 2 position 0.100" (2.54mm); Manufacturer: Harwin; Manufacturer Part Number: M20-9990246; Connector Type: Male Pin; Contact Resistance: 30mΩ; Current Rating: 3A; Dielectric Material: Polyamide; Insulation Resistance: 1GΩ; Number of Contacts: 2; Voltage Rating (AC): 750V; Supplier: DigiKey; Supplier Part Number: 952-2262-ND; RoHS: Compliant; Category: Headers and Wire Housings; Stock: 114297; Pricing: 1=0.1, 10=0.079, 100=0.0669, 500=0.0597, 1000=0.05684, 5000=0.05073, 10000=0.04831 (USD); Case/Package: SIL; Color: Black; Contact Material: Brass; Contact Mating Length: 6.096mm; Contact Plating: Tin; Country of Origin: Taiwan; Depth: 2.54mm; Export Control Classification Number (ECCN) Code: EAR99; Gender: Male; Height: 8.99mm; Housing Color: Black; Housing Material: Nylon; Harmonized Tariff Schedule (HTS) Code: 8536.69.40.40; Introduction Date: 2005-06-27; Lead Pitch: 2.54mm; Length: 5.08mm; Lifecycle Status: Production; Max Current Rating: 3A; Max Operating Temperature: 105°C; Min Operating Temperature: -40°C; Mounting Technology: Through Hole; Pins: 2; Number of Positions: 2; Number of Rows: 1; Orientation: Straight; Packaging: Bulk; Pitch: 2.54mm; Radiation Hardening: No; REACH SVHC: Yes; Terminal Pitch: 2.54mm; Termination: Solder; ComponentLink1URL: https://datasheet.octopart.com:443/M20-9990246-Harwin-datasheet-169407857.pdf?src-supplier=Newark; ComponentLink1Description: https://datasheet.octopart.com:443/M20-9990246-Harwin-datasheet-169407857.pdf?src-supplier=Newark; ComponentLink2URL: https://datasheet.octopart.com:443/M20-9990246-Harwin-datasheet-27378916.pdf?src-supplier=Newark; ComponentLink2Description: https://datasheet.octopart.com:443/M20-9990246-Harwin-datasheet-27378916.pdf?src-supplier=Newark; ComponentLink3URL: https://datasheet.octopart.com:443/M20-9990246-Harwin-datasheet-96624206.pdf?src-supplier=element14+APAC; ComponentLink3Description: https://datasheet.octopart.com:443/M20-9990246-Harwin-datasheet-96624206.pdf?src-supplier=element14+APAC; ComponentLink4URL: https://datasheet.octopart.com:443/M20-9990246-Harwin-datasheet-32864541.pdf?src-supplier=Farnell; ComponentLink4Description: https://datasheet.octopart.com:443/M20-9990246-Harwin-datasheet-32864541.pdf?src-supplier=Farnell; ComponentLink5URL: https://datasheet.octopart.com:443/M20-9990246-Harwin-datasheet-7538443.pdf?src-supplier=Farnell; ComponentLink5Description: https://datasheet.octopart.com:443/M20-9990246-Harwin-datasheet-7538443.pdf?src-supplier=Farnell; ComponentLink6URL: https://datasheet.octopart.com:443/M20-9990246-Harwin-datasheet-508868.pdf?src-supplier=Farnell; ComponentLink6Description: https://datasheet.octopart.com:443/M20-9990246-Harwin-datasheet-508868.pdf?src-supplier=Farnell; LCSC Part No: C3332353
footprint 2 pin connector
pins: 1, 2